# Altium footprint library ESP32_Control_Board.PcbLib: 3 footprints
Each footprint in its own frame and in the unit in brackets; x right, y up, seen from the top. Pads: shape width x height; smd on the part's side, far side on the other; paste and mask are expansions set on the pad; w line width, h text height; cw(c..) or ccw(c..) is an arc to the next point about the centre after c.
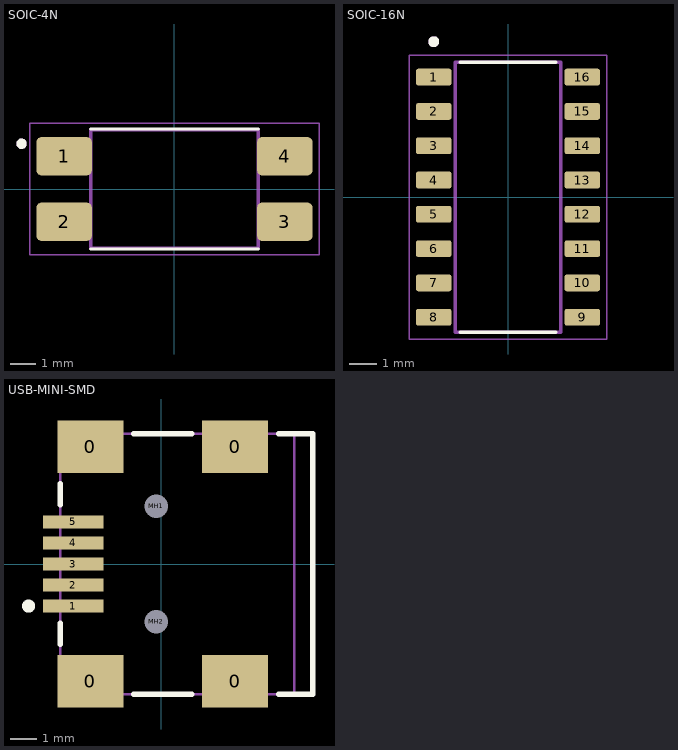
[diagram p0: the footprints below, top view; thin cyan lines are the x and y axes]

## SOIC-4N [mm]
height 4.2
pads (4):
  rrect25% 2.15x1.48 smd: 1(-4.28,1.27) 2(-4.28,-1.27) 3(4.28,-1.27) 4(4.28,1.27)
Top Overlay:
  circle w0.2: c-5.93,1.755 r0.1
  lines w0.127: -3.25,-2.33 3.25,-2.33 ; -3.25,2.33 3.25,2.33
Mechanical 13:
  circle w0.2: c-5.93,1.755 r0.1
  lines w0.127: -3.25,-2.3 3.25,-2.3 3.25,2.3 -3.25,2.3 -3.25,-2.3
Mechanical 15:
  lines w0.05: -5.605,-2.55 5.605,-2.55 5.605,2.55 -5.605,2.55 -5.605,-2.55
3D body "step_temp.STEP": height 4.2, standoff 0, extent -4.8,-2.3 4.8,2.3

## SOIC-16N [mm]
pads (16):
  rrect25% 1.31x0.62 smd: 1(-2.75,4.445) 2(-2.75,3.175) 3(-2.75,1.905) 4(-2.75,0.635) 5(-2.75,-0.635) 6(-2.75,-1.905) 7(-2.75,-3.175) 8(-2.75,-4.445) 9(2.75,-4.445) 10(2.75,-3.175) 11(2.75,-1.905) 12(2.75,-0.635) 13(2.75,0.635) 14(2.75,1.905) 15(2.75,3.175) 16(2.75,4.445)
Top Overlay:
  circle w0.2: c-2.75,5.755 r0.1
  lines w0.127: -1.775,-5 1.775,-5 -1.775,-5 ; -1.775,5 1.775,5 -1.775,5
Mechanical 13:
  circle w0.2: c-2.75,5.755 r0.1
  lines w0.127: -1.95,-5 1.95,-5 1.95,5 -1.95,5 -1.95,-5
Mechanical 15:
  lines w0.05: -3.655,-5.25 -3.655,5.25 3.655,5.25 3.655,-5.25 -3.655,-5.25
3D body "step_temp.STEP": height 1.8, standoff 0, extent -3,-5 3,5

## USB-MINI-SMD [mm]
pads (11):
  rect 2.5x2 smd: 0(-2.7,-4.45) 0(-2.7,4.45) 0(2.8,-4.45) 0(2.8,4.45)
  rect 2.3x0.5 smd: 1(-3.35,-1.6) 2(-3.35,-0.8) 3(-3.35,0) 4(-3.35,0.8) 5(-3.35,1.6)
  round 0.6 hole 0.9 unplated: MH1(-0.2,2.2) MH2(-0.2,-2.2)
Top Overlay:
  circle w0.25: c-5.05,-1.6 r0.125
  lines w0.2: -3.85,-3.05 -3.85,-2.25 ; -3.85,2.25 -3.85,3.05 ; -1.05,-4.95 1.15,-4.95 ; -1.05,4.95 1.15,4.95 ; 4.45,-4.95 5.75,-4.95 5.75,4.95 4.45,4.95
Mechanical 1:
  lines w0.1: 5.05,-4.95 5.05,4.95
  text "PCB Edge" at 5.482,-4.036 h0.25
Mechanical 13:
  lines w0.1: -3.85,-4.95 5.75,-4.95 5.75,4.95 -3.85,4.95 -3.85,-4.95
3D body "usb_a-usb_b-m5-smd-c.STEP": height 3.93, standoff -1, extent -3.5,-5.05 5.75,4.85